# EAGLE library part NRJ6HM (library con-neutrik_ag)
1/4" Stereo Phone Connector
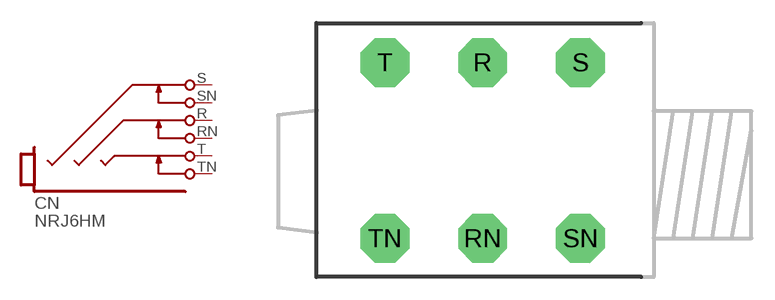
[diagram p5: symbol with the pads of NRJ6HM; footprint NRJ6HM]

Designator prefix CN

## NRJ6HM  [NRJ6HM]
R  R  pas
RN  RN  pas
S  S  pas
SN  SN  pas
T  T  pas
TN  TN  pas

## Footprint NRJ6HM (pad centres in mm)
drill 1.676 pad 3.175 octagon: R -11.1,7.23; RN -11.1,-4.2; S -4.75,7.23; SN -4.75,-4.2; T -17.45,7.23; TN -17.45,-4.2